# Altium schematic symbol library Sensor_Proximity.SchLib: 35 symbols
Pins are listed as number, name and electrical type; pins without a type are passive.

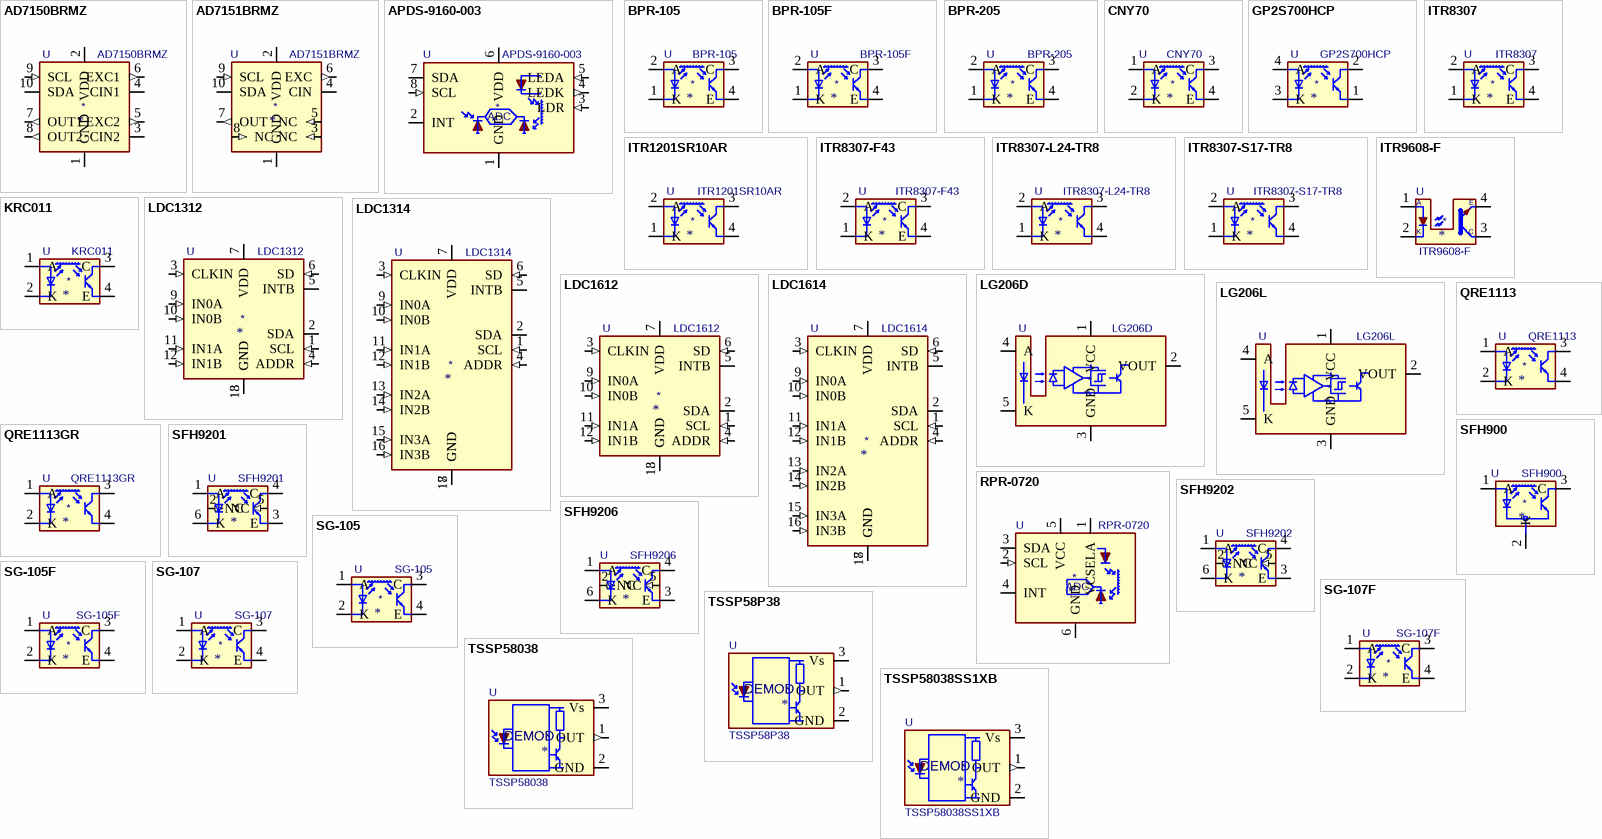
[diagram p0: symbols AD7150BRMZ to TSSP58038SS1XB]

## AD7150BRMZ
designator *  value AD7150BRMZ  Reference: U
Capacitance to digital converter for proximity sensing, 2-channel, 12 bit, 0..13pF range, 2.7..3.6V supply, I²C interface, MSOP-8; ki_keywords: Analog ADI CDC dual; ki_fp_filters: MSOP*3x3mm*P0.5mm*; Footprint: Package_SO:MSOP-10_3x3mm_P0.5mm; Datasheet: https://www.analog.com/media/en/technical-documentation/data-sheets/AD7150.pdf; Description_: Capacitance to digital converter for proximity sensing, 2-channel, 12 bit, 0..13pF range, 2.7..3.6V supply, I²C interface, MSOP-8
pins: 1 GND (power), 2 VDD (power), 3 CIN2, 4 CIN1, 5 EXC2 (out), 6 EXC1 (out), 7 OUT1 (out), 8 OUT2 (out), 9 SCL (in), 10 SDA (io)

## AD7151BRMZ
designator *  value AD7151BRMZ  Reference: U
Capacitance to digital converter for proximity sensing, 1-channel, 12 bit, 0..13pF range, 2.7..3.6V supply, I²C interface, MSOP-8; ki_keywords: Analog ADI CDC single; ki_fp_filters: MSOP*3x3mm*P0.5mm*; Footprint: Package_SO:MSOP-10_3x3mm_P0.5mm; Datasheet: https://www.analog.com/media/en/technical-documentation/data-sheets/AD7151.pdf; Description_: Capacitance to digital converter for proximity sensing, 1-channel, 12 bit, 0..13pF range, 2.7..3.6V supply, I²C interface, MSOP-8
pins: 1 GND (power), 2 VDD (power), 3 NC (in), 4 CIN, 5 NC (in), 6 EXC (out), 7 OUT (out), 8 NC (in), 9 SCL (in), 10 SDA (io)

## APDS-9160-003
designator *  value APDS-9160-003  Reference: U
Proximity Sensor, I2C interface, 1.7-3.6V, LGA-8; ki_keywords: opto proximity sensor avago broadcom; ki_fp_filters: Broadcom*APDS*9160*003*; Footprint: OptoDevice:Broadcom_APDS-9160-003; Datasheet: https://docs.broadcom.com/docs/APDS-9160-003-DS; Description_: Proximity Sensor, I2C interface, 1.7-3.6V, LGA-8
pins: 1 GND (power), 2 INT (oc), 3 LDR (in), 4 LEDK (out), 5 LEDA (in), 6 VDD (power), 7 SDA (io), 8 SCL (in)
text: ADC

## BPR-105
designator *  value BPR-105  Reference: U
Subminiature Reflective Optical Sensor, SMD-package with PCB-cutout; ki_keywords: Reflective Optical Sensor Opto; ki_fp_filters: Everlight*ITR8307*; Footprint: OptoDevice:Everlight_ITR8307; Datasheet: http://www.ystone.com.tw/en/data/goods/IRPT/Photo%20Interrupters-Reflective%20Type.pdf; Description_: Subminiature Reflective Optical Sensor, SMD-package with PCB-cutout
pins: 1 K, 2 A, 3 C (oc), 4 E (oe)

## BPR-105F
designator *  value BPR-105F  Reference: U
Subminiature Reflective Optical Sensor, DIP-like THT-package; ki_keywords: Reflective Optical Sensor Opto; ki_fp_filters: Everlight*ITR8307F43*; Footprint: OptoDevice:Everlight_ITR8307F43; Datasheet: http://www.ystone.com.tw/en/data/goods/IRPT/Photo%20Interrupters-Reflective%20Type.pdf; Description_: Subminiature Reflective Optical Sensor, DIP-like THT-package
pins: 1 K, 2 A, 3 C (oc), 4 E (oe)

## BPR-205
designator *  value BPR-205  Reference: U
Subminiature Reflective Optical Sensor, Darlington photo transistor, SMD-package with PCB-cutout; ki_keywords: Reflective Optical Sensor Opto; ki_fp_filters: Everlight*ITR8307*; Footprint: OptoDevice:Everlight_ITR8307; Datasheet: http://www.ystone.com.tw/en/data/goods/IRPT/Photo%20Interrupters-Reflective%20Type.pdf; Description_: Subminiature Reflective Optical Sensor, Darlington photo transistor, SMD-package with PCB-cutout
pins: 1 K, 2 A, 3 C (oc), 4 E (oe)

## CNY70
designator *  value CNY70  Reference: U
Reflective Optical Sensor with Transistor Output; ki_keywords: Reflective Optical Sensor Opto; ki_fp_filters: Vishay*CNY70*; Footprint: OptoDevice:Vishay_CNY70; Datasheet: https://www.vishay.com/docs/83751/cny70.pdf; Description_: Reflective Optical Sensor with Transistor Output
pins: 1 A, 2 K, 3 C (oc), 4 E (oe)

## GP2S700HCP
designator *  value GP2S700HCP  Reference: U
Reflective Optical Sensor 0.217" (5.5mm) 4-SMD; ki_keywords: Reflective Optical Sensor Opto reflex coupler; ki_fp_filters: Sharp*GP2S700HCP*; Footprint: OptoDevice:Sharp_GP2S700HCP; Datasheet: https://www.sharpsde.com/fileadmin/products/Optoelectronics/Isolation%20Devices/Specs_Photointerrupter/GP2S700HCP_03Oct05_DS_D3-A02201FEN.pdf; Description_: Reflective Optical Sensor 0.217" (5.5mm) 4-SMD
pins: 1 (oe), 2 (oc), 3 K, 4 A

## ITR1201SR10AR
designator *  value ITR1201SR10AR  Reference: U
Miniature Reflective Optical Object Sensor, SMD-4; ki_keywords: Reflective Optical Sensor Opto reflex coupler; ki_fp_filters: Everlight*ITR1201SR10AR*; Footprint: OptoDevice:Everlight_ITR1201SR10AR; Datasheet: http://www.everlight.com/file/ProductFile/ITR1201SR10AR-TR.pdf; Description_: Miniature Reflective Optical Object Sensor, SMD-4
pins: 1 K, 2 A, 3 (oc), 4 (oe)

## ITR8307
designator *  value ITR8307  Reference: U
Subminiature Reflective Optical Sensor, SMD-package with PCB-cutout; ki_keywords: Reflective Optical Sensor Opto; ki_fp_filters: Everlight*ITR8307*; Footprint: OptoDevice:Everlight_ITR8307; Datasheet: http://www.everlight.com/file/ProductFile/ITR8307.pdf; Description_: Subminiature Reflective Optical Sensor, SMD-package with PCB-cutout
pins: 1 K, 2 A, 3 C (oc), 4 E (oe)

## ITR8307-F43
designator *  value ITR8307-F43  Reference: U
Subminiature Reflective Optical Sensor, DIP-like THT-package; ki_keywords: Reflective Optical Sensor Opto; ki_fp_filters: Everlight*ITR8307F43*; Footprint: OptoDevice:Everlight_ITR8307F43; Datasheet: https://everlighteurope.com/index.php?controller=attachment&id_attachment=5385; Description_: Subminiature Reflective Optical Sensor, DIP-like THT-package
pins: 1 K, 2 A, 3 C (oc), 4 E (oe)

## ITR8307-L24-TR8
designator *  value ITR8307-L24-TR8  Reference: U
Miniature Reflective Optical Object Sensor, SMD-4; ki_keywords: Reflective Optical Sensor Opto reflex coupler; ki_fp_filters: Everlight*ITR1201SR10AR*; Footprint: OptoDevice:Everlight_ITR1201SR10AR; Datasheet: https://www.everlight.com/file/ProductFile/ITR8307-L24-TR8.pdf; Description_: Miniature Reflective Optical Object Sensor, SMD-4
pins: 1 K, 2 A, 3 (oc), 4 (oe)

## ITR8307-S17-TR8
designator *  value ITR8307-S17-TR8  Reference: U
Miniature Reflective Optical Object Sensor, SMD-4; ki_keywords: Reflective Optical Sensor Opto reflex coupler; ki_fp_filters: Everlight*ITR1201SR10AR*; Footprint: OptoDevice:Everlight_ITR1201SR10AR; Datasheet: https://datasheet.lcsc.com/szlcsc/1810010232_Everlight-Elec-ITR8307-S17-TR8-B_C81632.pdf; Description_: Miniature Reflective Optical Object Sensor, SMD-4
pins: 1 K, 2 A, 3 (oc), 4 (oe)

## ITR9608-F
designator *  value ITR9608-F  Reference: U
Photointerrupter infrared LED with photo IC, -25 to +85 degree Celsius; ki_keywords: Photointerrupter opto interrupter infrared LED fast response time infrared 940nm 5mm gap; ki_fp_filters: *ITR9608*; Footprint: OptoDevice:Everlight_ITR9608-F; Datasheet: https://www.everlighteurope.com/custom/files/datasheets/DRX-0000076.pdf; Description_: Photointerrupter infrared LED with photo IC, -25 to +85 degree Celsius
pins: 1, 2, 3 (oc), 4 (oe)
text: A; E; K; C

## KRC011
designator *  value KRC011  Reference: U
Subminiature Reflective Optical Sensor; ki_keywords: Reflective Optical Sensor Opto; ki_fp_filters: Kingbright?KRC011*; Footprint: OptoDevice:Kingbright_KRC011_Vertical; Datasheet: http://www.kingbright.com/attachments/file/psearch/000/00/00/KRC011(Ver.15).pdf; Description_: Subminiature Reflective Optical Sensor
pins: 1 A, 2 K, 3 C (oc), 4 E (oe)

## LDC1312
designator *  value LDC1312  Reference: U
Inductance to digital converter, 2-channel 12-bit, WSON-12; ki_keywords: inductance sensor; ki_fp_filters: WSON*1EP*4x4mm*P0.5mm*; Footprint: Package_SON:WSON-12-1EP_4x4mm_P0.5mm_EP2.6x3mm_ThermalVias; Datasheet: http://www.ti.com/lit/ds/symlink/ldc1312.pdf; Description_: Inductance to digital converter, 2-channel 12-bit, WSON-12
pins: 1 SCL (in), 2 SDA (io), 3 CLKIN (in), 4 ADDR (in), 5 INTB (oc), 6 SD (in), 7 VDD (power), 8 GND (power), 9 IN0A (in), 10 IN0B (in), 11 IN1A (in), 12 IN1B (in), 13 GND

## LDC1314
designator *  value LDC1314  Reference: U
Inductance to digital converter, 4-channel 12-bit, WQFN-16; ki_keywords: inductance sensor; ki_fp_filters: WQFN*1EP*4x4mm*P0.5mm*; Footprint: Package_DFN_QFN:WQFN-16-1EP_4x4mm_P0.5mm_EP2.6x2.6mm_ThermalVias; Datasheet: http://www.ti.com/lit/ds/symlink/ldc1312.pdf; Description_: Inductance to digital converter, 4-channel 12-bit, WQFN-16
pins: 1 SCL (in), 2 SDA (io), 3 CLKIN (in), 4 ADDR (in), 5 INTB (oc), 6 SD (in), 7 VDD (power), 8 GND (power), 9 IN0A (in), 10 IN0B (in), 11 IN1A (in), 12 IN1B (in), 13 IN2A (in), 14 IN2B (in), 15 IN3A (in), 16 IN3B (in), 17 GND

## LDC1612
designator *  value LDC1612  Reference: U
Inductance to digital converter, 2-channel 28-bit, WSON-12; ki_keywords: inductance sensor; ki_fp_filters: WSON*1EP*4x4mm*P0.5mm*; Footprint: Package_SON:WSON-12-1EP_4x4mm_P0.5mm_EP2.6x3mm_ThermalVias; Datasheet: http://www.ti.com/lit/ds/symlink/ldc1612.pdf; Description_: Inductance to digital converter, 2-channel 28-bit, WSON-12
pins: 1 SCL (in), 2 SDA (io), 3 CLKIN (in), 4 ADDR (in), 5 INTB (oc), 6 SD (in), 7 VDD (power), 8 GND (power), 9 IN0A (in), 10 IN0B (in), 11 IN1A (in), 12 IN1B (in), 13 GND

## LDC1614
designator *  value LDC1614  Reference: U
Inductance to digital converter, 4-channel 28-bit, WQFN-16; ki_keywords: inductance sensor; ki_fp_filters: WQFN*1EP*4x4mm*P0.5mm*; Footprint: Package_DFN_QFN:WQFN-16-1EP_4x4mm_P0.5mm_EP2.6x2.6mm_ThermalVias; Datasheet: http://www.ti.com/lit/ds/symlink/ldc1612.pdf; Description_: Inductance to digital converter, 4-channel 28-bit, WQFN-16
pins: 1 SCL (in), 2 SDA (io), 3 CLKIN (in), 4 ADDR (in), 5 INTB (oc), 6 SD (in), 7 VDD (power), 8 GND (power), 9 IN0A (in), 10 IN0B (in), 11 IN1A (in), 12 IN1B (in), 13 IN2A (in), 14 IN2B (in), 15 IN3A (in), 16 IN3B (in), 17 GND

## LG206D
designator *  value LG206D  Reference: U
Photointerrupter infrared LED with photo IC, non-inverting output, -0.5V to 17V VDD, -20 to +85 degree Celsius, LG206D; ki_fp_filters: Kodenshi?LG206D*; Footprint: OptoDevice:Kodenshi_LG206D; Datasheet: http://kodenshi.co.jp/products/pdf/sensor/photointerrupter_ic/LG206D.pdf; Description_: Photointerrupter infrared LED with photo IC, non-inverting output, -0.5V to 17V VDD, -20 to +85 degree Celsius, LG206D; ki_keywords: Photointerrupter infrared LED with photo IC, non-inverting output, -0.5V to 17V VDD, -20 to +85 degree Celsius, LG206D
pins: 1 VCC (power), 2 VOUT (oc), 3 GND (power), 4 A, 5 K

## LG206L
designator *  value LG206L  Reference: U
Photointerrupter infrared LED with photo IC, inverting output, -0.5V to 17V VDD, -20 to +85 degree Celsius, LG206X; ki_fp_filters: Kodenshi?LG206L*; Footprint: OptoDevice:Kodenshi_LG206L; Datasheet: http://kodenshi.co.jp/products/pdf/sensor/photointerrupter_ic/LG206L.pdf; Description_: Photointerrupter infrared LED with photo IC, inverting output, -0.5V to 17V VDD, -20 to +85 degree Celsius, LG206X; ki_keywords: Photointerrupter infrared LED with photo IC, inverting output, -0.5V to 17V VDD, -20 to +85 degree Celsius, LG206X
pins: 1 VCC (power), 2 VOUT (oc), 3 GND (power), 4 A, 5 K

## QRE1113
designator *  value QRE1113  Reference: U
Miniature Reflective Optical Object Sensor, DIP-like THT-package; ki_keywords: Reflective Optical Sensor Opto reflex coupler; ki_fp_filters: OnSemi*CASE100AQ*; Footprint: OptoDevice:OnSemi_CASE100AQ; Datasheet: http://www.onsemi.com/pub/Collateral/QRE1113-D.PDF; Description_: Miniature Reflective Optical Object Sensor, DIP-like THT-package
pins: 1 A, 2 K, 3 (oc), 4 (oe)

## QRE1113GR
designator *  value QRE1113GR  Reference: U
Miniature Reflective Optical Object Sensor, SMD-4; ki_keywords: Reflective Optical Sensor Opto reflex coupler; ki_fp_filters: OnSemi*CASE100CY*; Footprint: OptoDevice:OnSemi_CASE100CY; Datasheet: http://www.onsemi.com/pub/Collateral/QRE1113-D.PDF; Description_: Miniature Reflective Optical Object Sensor, SMD-4
pins: 1 A, 2 K, 3 (oc), 4 (oe)

## RPR-0720
designator *  value RPR-0720  Reference: U
Proximity Sensor, I2C interface, 2x1x0.55mm, 1-15mm, 2.5-3.6V, LGA-6; ki_keywords: opto rohm; ki_fp_filters: Rohm*RPR*0720*; Footprint: OptoDevice:Rohm_RPR-0720; Datasheet: https://fscdn.rohm.com/en/products/databook/datasheet/opto/optical_sensor/photosensor/rpr-0720-e.pdf; Description_: Proximity Sensor, I2C interface, 2x1x0.55mm, 1-15mm, 2.5-3.6V, LGA-6
pins: 1 VCSELA (power), 2 SCL (in), 3 SDA (io), 4 INT (oc), 5 VCC (power), 6 GND (power)
text: ADC

## SFH900
designator *  value SFH900  Reference: U
Miniature Light Reflection Switches; ki_keywords: Reflective Optical Sensor Opto; ki_fp_filters: Siemens*SFH900*; Footprint: OptoDevice:Siemens_SFH900; Datasheet: https://www.batronix.com/pdf/sfh900.pdf; Description_: Miniature Light Reflection Switches
pins: 1 A, 2 K, 3 C (oc)

## SFH9201
designator *  value SFH9201  Reference: U
Reflective Opto Interrupter/Coupler, SMD-6; ki_keywords: Reflective Opto Interrupter Coupler; ki_fp_filters: Osram*SFH9x0x*; Footprint: OptoDevice:Osram_SFH9x0x; Datasheet: https://media.digikey.com/pdf/Data%20Sheets/Osram%20PDFs/SFH_9201.pdf; Description_: Reflective Opto Interrupter/Coupler, SMD-6
pins: 1 A, 2 NC (in), 3 E (oe), 4 C (oc), 5 NC (in), 6 K

## SFH9202
designator *  value SFH9202  Reference: U
Reflective Opto Interrupter/Coupler, SMD-6; ki_keywords: Reflective Opto Interrupter Coupler; ki_fp_filters: Osram*SFH9x0x*; Footprint: OptoDevice:Osram_SFH9x0x; Datasheet: http://www.osram-os.com/Graphics/XPic0/00083379_0.pdf/SFH%209202,%20Lead%20%28Pb%29%20Free%20Product%20-%20RoHS%20Compliant.pdf; Description_: Reflective Opto Interrupter/Coupler, SMD-6
pins: 1 A, 2 NC (in), 3 E (oe), 4 C (oc), 5 NC (in), 6 K

## SFH9206
designator *  value SFH9206  Reference: U
Reflective Opto Interrupter/Coupler, SMD-6; ki_keywords: Reflective Opto Interrupter Coupler; ki_fp_filters: Osram*SFH9x0x*; Footprint: OptoDevice:Osram_SFH9x0x; Datasheet: http://www.osram-os.com/Graphics/XPic6/00200860_0.pdf; Description_: Reflective Opto Interrupter/Coupler, SMD-6
pins: 1 A, 2 NC (in), 3 E (oe), 4 C (oc), 5 NC (in), 6 K

## SG-105
designator *  value SG-105  Reference: U
Subminiature Reflective Optical Sensor, SMD-package with PCB-cutout; ki_keywords: Reflective Optical Sensor Opto; ki_fp_filters: Kodenshi*SG105*; Footprint: OptoDevice:Kodenshi_SG105; Datasheet: http://www.kodenshi.co.jp/products/pdf/sensor/photointerrupter_ref/SG-105.pdf; Description_: Subminiature Reflective Optical Sensor, SMD-package with PCB-cutout
pins: 1 A, 2 K, 3 C (oc), 4 E (oe)

## SG-105F
designator *  value SG-105F  Reference: U
Subminiature Reflective Optical Sensor, DIP-lie THT-package; ki_keywords: Reflective Optical Sensor Opto; ki_fp_filters: Kodenshi*SG105F*; Footprint: OptoDevice:Kodenshi_SG105F; Datasheet: http://www.kodenshi.co.jp/products/pdf/sensor/photointerrupter_ref/SG-105F.pdf; Description_: Subminiature Reflective Optical Sensor, DIP-lie THT-package
pins: 1 A, 2 K, 3 C (oc), 4 E (oe)

## SG-107
designator *  value SG-107  Reference: U
Subminiature Reflective Optical Sensor, SMD-package with PCB-cutout; ki_keywords: Reflective Optical Sensor Opto; ki_fp_filters: Kodenshi*SG105*; Footprint: OptoDevice:Kodenshi_SG105; Datasheet: http://www.kodenshi.co.jp/products/pdf/sensor/photointerrupter_ref/SG-107.pdf; Description_: Subminiature Reflective Optical Sensor, SMD-package with PCB-cutout
pins: 1 A, 2 K, 3 C (oc), 4 E (oe)

## SG-107F
designator *  value SG-107F  Reference: U
Subminiature Reflective Optical Sensor, DIP-lie THT-package; ki_keywords: Reflective Optical Sensor Opto; ki_fp_filters: Kodenshi*SG105F*; Footprint: OptoDevice:Kodenshi_SG105F; Datasheet: https://www.pacer.co.uk/Assets/User/1055-SG-107F.pdf; Description_: Subminiature Reflective Optical Sensor, DIP-lie THT-package
pins: 1 A, 2 K, 3 C (oc), 4 E (oe)

## TSSP58P38
designator *  value TSSP58P38  Reference: U
Photo Modules for PCM Remote Control Systems; ki_keywords: opto IR receiver; ki_fp_filters: Vishay*MINICAST*; Footprint: OptoDevice:Vishay_MINICAST-3Pin; Datasheet: http://www.vishay.com/docs/82462/tsop581.pdf; Description_: Photo Modules for PCM Remote Control Systems
pins: 1 OUT (out), 2 GND (power), 3 Vs (power)
text: DEMOD

## TSSP58038
designator *  value TSSP58038  Reference: U
IR Detector for Mid Range Proximity Sensor; ki_keywords: opto IR receiver proximity sensor; ki_fp_filters: Vishay*MINICAST*; Footprint: OptoDevice:Vishay_MINICAST-3Pin; Datasheet: http://www.vishay.com/docs/82476/tssp58p38.pdf; Description_: IR Detector for Mid Range Proximity Sensor
pins: 1 OUT (out), 2 GND (power), 3 Vs (power)
text: DEMOD

## TSSP58038SS1XB
designator *  value TSSP58038SS1XB  Reference: U
IR Receiver Module for Light Barrier Systems; ki_keywords: opto IR receiver light barrier; ki_fp_filters: Vishay*MINICAST*; Footprint: OptoDevice:Vishay_MINICAST-3Pin; Datasheet: http://www.vishay.com/docs/82740/tssp58038ss1xb.pdf; Description_: IR Receiver Module for Light Barrier Systems
pins: 1 OUT (out), 2 GND (power), 3 Vs (power)
text: DEMOD